# EAGLE library part 14P*-JMCS-G (library jst-jmc)
0.5mm Pitch SMT Board to Board Connector Source: http://www.jst-mfg.com/product/pdf/jpn/JMC.pdf http://www.jst-mfg.com/product/detail.php?series=147
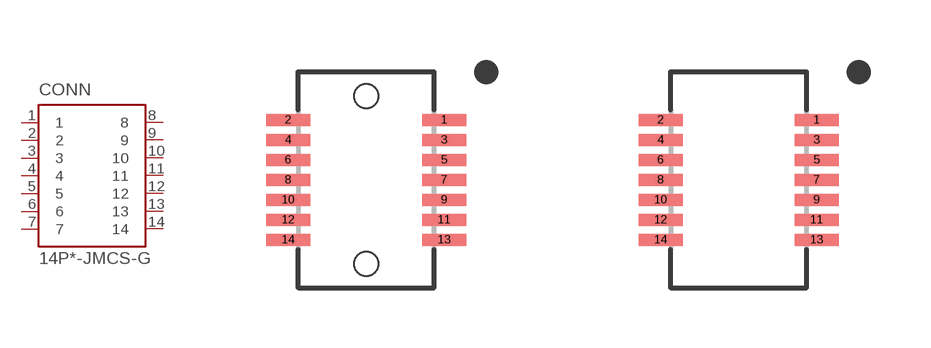
[diagram p0: symbol with the pads of 14P*-JMCS-G-B-TF; footprints 14P*-JMCS-G-B-TF, 14P*-JMCS-G-TF]

Designator prefix CONN

## 14P5.0-JMCS-G-B-TF  [14P*-JMCS-G-B-TF]
1  1
2  2
3  3
4  4
5  5
6  6
7  7
8  8
9  9
10  10
11  11
12  12
13  13
14  14

## 14P5.0-JMCS-G-TF  [14P*-JMCS-G-TF]
Pads as for 14P*-JMCS-G-B-TF

## Footprint 14P*-JMCS-G-B-TF (pad centres in mm)
smd 1.1 x 0.3: 1 1.95,1.5; 2 -1.95,1.5; 3 1.95,1; 4 -1.95,1; 5 1.95,0.5; 6 -1.95,0.5; 7 1.95,0; 8 -1.95,0; 9 1.95,-0.5; 10 -1.95,-0.5; 11 1.95,-1; 12 -1.95,-1; 13 1.95,-1.5; 14 -1.95,-1.5
hole 0.6 at 0,2.1
hole 0.6 at 0,-2.1

## Footprint 14P*-JMCS-G-TF (pad centres in mm)
smd 1.1 x 0.3: 1 1.95,1.5; 2 -1.95,1.5; 3 1.95,1; 4 -1.95,1; 5 1.95,0.5; 6 -1.95,0.5; 7 1.95,0; 8 -1.95,0; 9 1.95,-0.5; 10 -1.95,-0.5; 11 1.95,-1; 12 -1.95,-1; 13 1.95,-1.5; 14 -1.95,-1.5